# Altium footprint library HCSM2818FT10L0.PcbLib: 1 footprints
Each footprint in its own frame and in the unit in brackets; x right, y up, seen from the top. Pads: shape width x height; smd on the part's side, far side on the other; paste and mask are expansions set on the pad; w line width, h text height; cw(c..) or ccw(c..) is an arc to the next point about the centre after c.
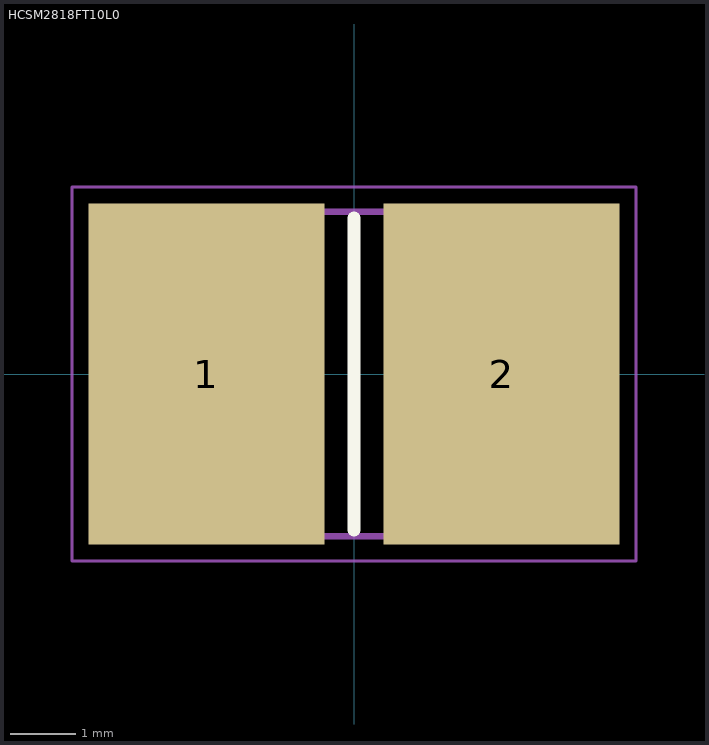
[diagram p0: the footprint, top view; thin cyan lines are the x and y axes]

## HCSM2818FT10L0 [mm]
pads (2):
  rect 3.6x5.2 smd: 1(-2.25,0) 2(2.25,0)
Top Overlay:
  lines w0.2: 0,-2.375 0,2.375
Mechanical 13:
  lines w0.1: -3.575,-2.475 -3.575,2.475 3.575,2.475 3.575,-2.475 -3.575,-2.475
Mechanical 15:
  lines w0.05: -4.3,-2.85 -4.3,2.85 4.3,2.85 4.3,-2.85 -4.3,-2.85
3D body "HCSM2818FT10L0.stp": height 1.65, standoff 0, extent -3.57,-2.47 3.58,2.48